# Altium integrated library Microchip Mixed Signal.IntLib: 1399 symbols (part 1 of 39)
Pins are listed as number, name and electrical type; pins without a type are passive.

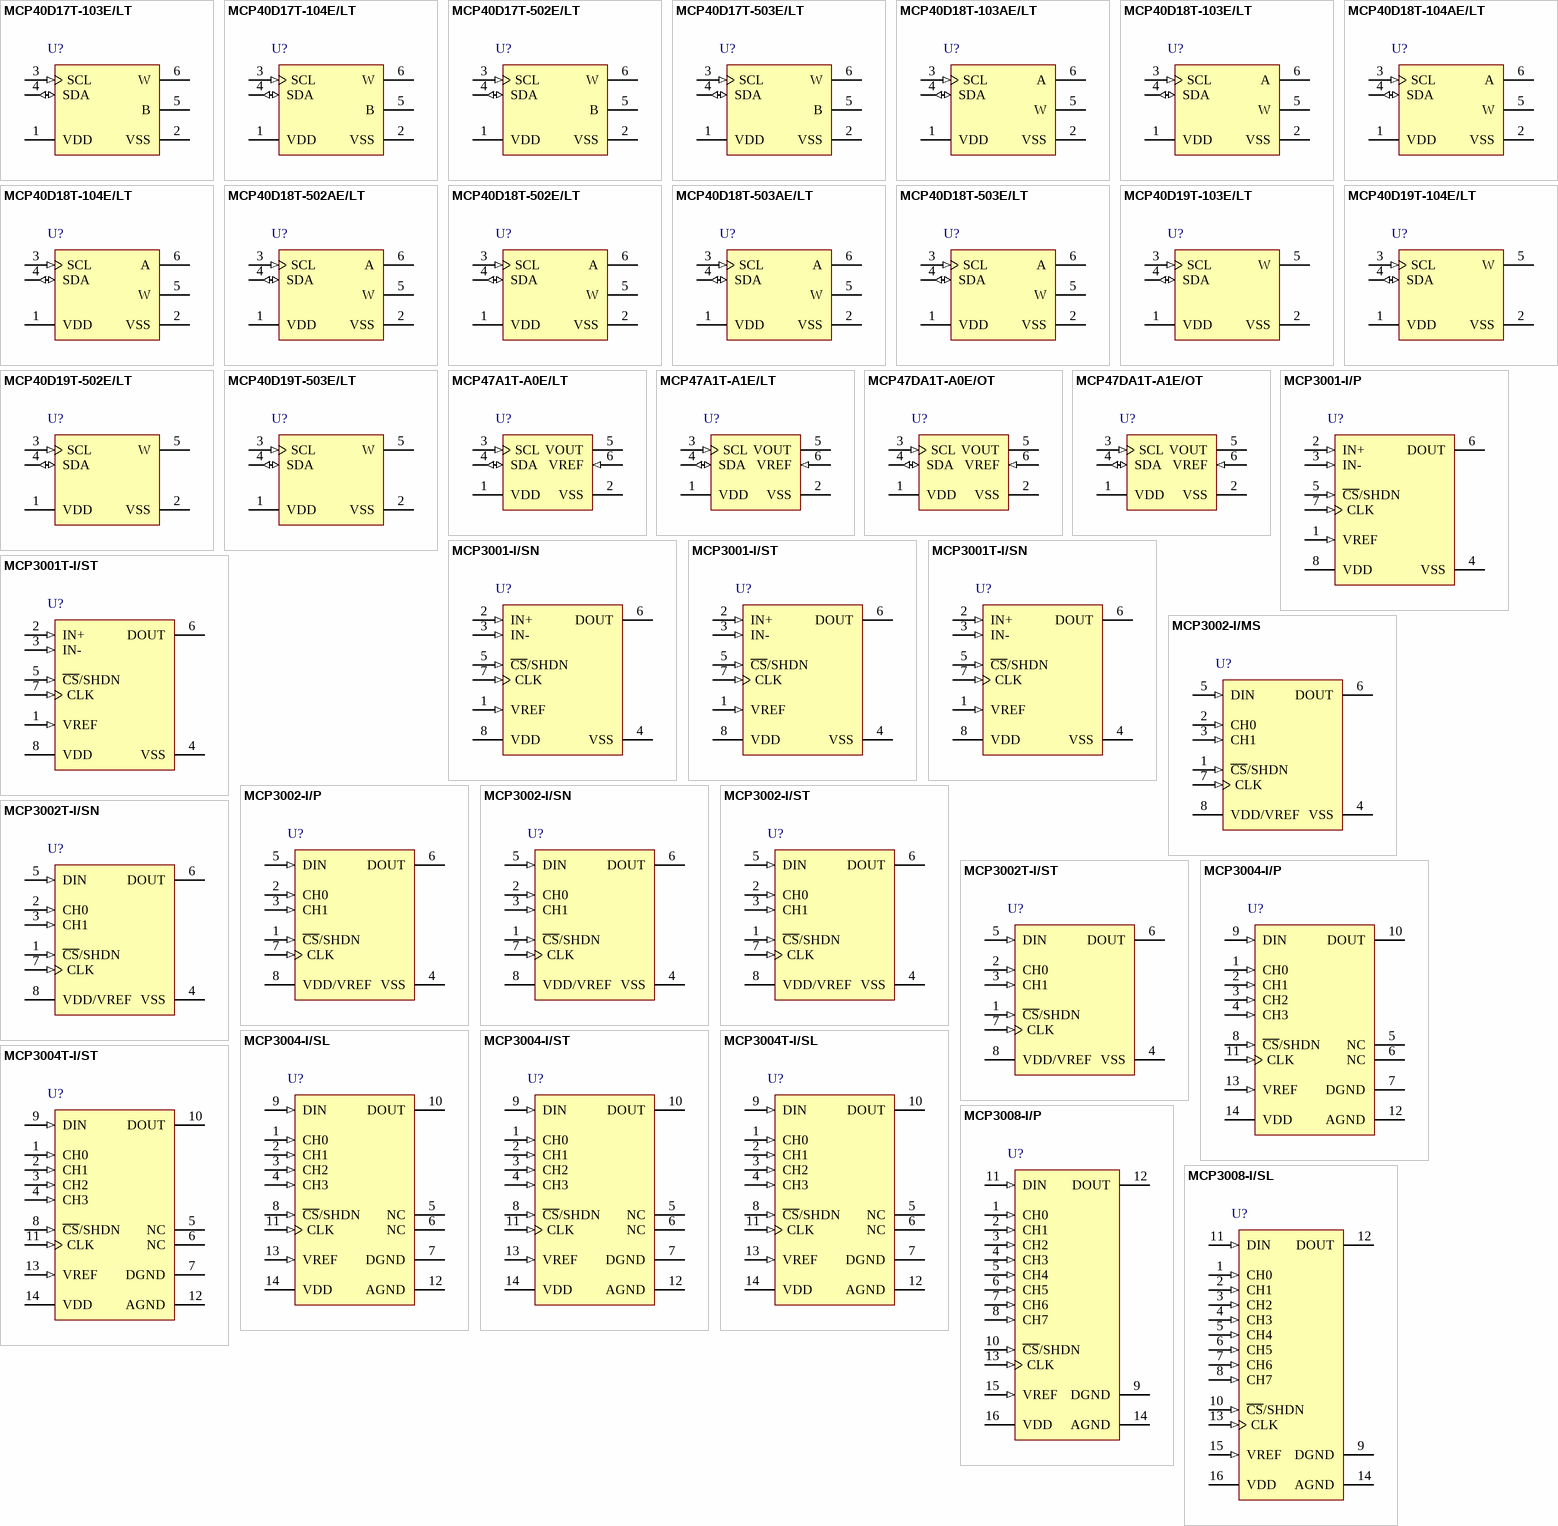
[diagram p0: symbols MCP40D17T-103E/LT to MCP3008-I/SL]

## MCP40D17T-103E/LT
designator U?
7-Bit Single I2C (with Command Code) Digital POT with Volatile Memory, 6-pin SC70, Extended Temperature, Tape and Reel; Manufacturer: Microchip; PartNumber: MCP40D17T-103E/LT; DatasheetVersion: revB, Aug-2009; PackageVersion: revBB, Aug-2009; PackageReference: SC70-LT6; PackageDescription: 6-Lead Plastic Small Outline Transistor (LT) [SC70]; Supplier 1: Digi-Key; Supplier Part Number 1: MCP40D17T-103E/LTTR-ND; Supplier 2: Digi-Key; Supplier Part Number 2: MCP40D17T-103E/LTCT-ND; Supplier 3: Digi-Key; Supplier Part Number 3: MCP40D17T-103E/LTDKR-ND; Supplier 4: Farnell; Supplier Part Number 4: 1800211; Supplier 5: Newark; Supplier Part Number 5: 25R7937; Supplier 6: Mouser; Supplier Part Number 6: 579-MCP40D17T103E/LT; Mounting Technology: Surface Mount; ComponentLink1Description: Manufacturer URL; ComponentLink1URL: http://www.microchip.com/; ComponentLink2Description: Datasheet; ComponentLink2URL: http://ww1.microchip.com/downloads/en/DeviceDoc/22152b.pdf; ComponentLink3Description: Package Specification; ComponentLink3URL: http://www.microchip.com/stellent/groups/techpub_sg/documents/packagingspec/en012702.pdf
footprint SC70-LT6_N (SOT363, 6-Leads, Body 2x1.3mm, Pitch 0.65mm, Lead Span 2.1mm, IPC Medium Density)
footprint SC70-LT6_L (SOT363, 6-Leads, Body 2x1.3mm, Pitch 0.65mm, Lead Span 2.1mm, IPC High Density)
footprint SC70-LT6_M (SOT363, 6-Leads, Body 2x1.3mm, Pitch 0.65mm, Lead Span 2.1mm, IPC Low Density)
pins: 1 VDD (power), 2 VSS (power), 3 SCL (in), 4 SDA (io), 5 B, 6 W

## MCP40D17T-104E/LT
designator U?
7-Bit Single I2C (with Command Code) Digital POT with Volatile Memory, 6-pin SC70, Extended Temperature, Tape and Reel; Manufacturer: Microchip; PartNumber: MCP40D17T-104E/LT; DatasheetVersion: revB, Aug-2009; PackageVersion: revBB, Aug-2009; PackageReference: SC70-LT6; PackageDescription: 6-Lead Plastic Small Outline Transistor (LT) [SC70]; Supplier 1: Digi-Key; Supplier Part Number 1: MCP40D17T-104E/LTTR-ND; Supplier 2: Digi-Key; Supplier Part Number 2: MCP40D17T-104E/LTCT-ND; Supplier 3: Digi-Key; Supplier Part Number 3: MCP40D17T-104E/LTDKR-ND; Supplier 4: Farnell; Supplier Part Number 4: 1834932; Supplier 5: Newark; Supplier Part Number 5: 84R6240; Supplier 6: Mouser; Supplier Part Number 6: 579-MCP40D17T104E/LT; Mounting Technology: Surface Mount; ComponentLink1Description: Manufacturer URL; ComponentLink1URL: http://www.microchip.com/; ComponentLink2Description: Datasheet; ComponentLink2URL: http://ww1.microchip.com/downloads/en/DeviceDoc/22152b.pdf; ComponentLink3Description: Package Specification; ComponentLink3URL: http://www.microchip.com/stellent/groups/techpub_sg/documents/packagingspec/en012702.pdf
footprint SC70-LT6_N (SOT363, 6-Leads, Body 2x1.3mm, Pitch 0.65mm, Lead Span 2.1mm, IPC Medium Density)
footprint SC70-LT6_L (SOT363, 6-Leads, Body 2x1.3mm, Pitch 0.65mm, Lead Span 2.1mm, IPC High Density)
footprint SC70-LT6_M (SOT363, 6-Leads, Body 2x1.3mm, Pitch 0.65mm, Lead Span 2.1mm, IPC Low Density)
pins: 1 VDD (power), 2 VSS (power), 3 SCL (in), 4 SDA (io), 5 B, 6 W

## MCP40D17T-502E/LT
designator U?
7-Bit Single I2C (with Command Code) Digital POT with Volatile Memory, 6-pin SC70, Extended Temperature, Tape and Reel; Manufacturer: Microchip; PartNumber: MCP40D17T-502E/LT; DatasheetVersion: revB, Aug-2009; PackageVersion: revBB, Aug-2009; PackageReference: SC70-LT6; PackageDescription: 6-Lead Plastic Small Outline Transistor (LT) [SC70]; Supplier 1: Digi-Key; Supplier Part Number 1: MCP40D17T-502E/LTTR-ND; Supplier 2: Digi-Key; Supplier Part Number 2: MCP40D17T-502E/LTCT-ND; Supplier 3: Digi-Key; Supplier Part Number 3: MCP40D17T-502E/LTDKR-ND; Supplier 4: Farnell; Supplier Part Number 4: 1800212; Supplier 5: Newark; Supplier Part Number 5: 65T6675; Supplier 6: Mouser; Supplier Part Number 6: 579-MCP40D17T502E/LT; Mounting Technology: Surface Mount; ComponentLink1Description: Manufacturer URL; ComponentLink1URL: http://www.microchip.com/; ComponentLink2Description: Datasheet; ComponentLink2URL: http://ww1.microchip.com/downloads/en/DeviceDoc/22152b.pdf; ComponentLink3Description: Package Specification; ComponentLink3URL: http://www.microchip.com/stellent/groups/techpub_sg/documents/packagingspec/en012702.pdf
footprint SC70-LT6_N (SOT363, 6-Leads, Body 2x1.3mm, Pitch 0.65mm, Lead Span 2.1mm, IPC Medium Density)
footprint SC70-LT6_L (SOT363, 6-Leads, Body 2x1.3mm, Pitch 0.65mm, Lead Span 2.1mm, IPC High Density)
footprint SC70-LT6_M (SOT363, 6-Leads, Body 2x1.3mm, Pitch 0.65mm, Lead Span 2.1mm, IPC Low Density)
pins: 1 VDD (power), 2 VSS (power), 3 SCL (in), 4 SDA (io), 5 B, 6 W

## MCP40D17T-503E/LT
designator U?
7-Bit Single I2C (with Command Code) Digital POT with Volatile Memory, 6-pin SC70, Extended Temperature, Tape and Reel; Manufacturer: Microchip; PartNumber: MCP40D17T-503E/LT; DatasheetVersion: revB, Aug-2009; PackageVersion: revBB, Aug-2009; PackageReference: SC70-LT6; PackageDescription: 6-Lead Plastic Small Outline Transistor (LT) [SC70]; Supplier 1: Digi-Key; Supplier Part Number 1: MCP40D17T-503E/LTTR-ND; Supplier 2: Digi-Key; Supplier Part Number 2: MCP40D17T-503E/LTCT-ND; Supplier 3: Digi-Key; Supplier Part Number 3: MCP40D17T-503E/LTDKR-ND; Supplier 4: Farnell; Supplier Part Number 4: 1834933; Supplier 5: Newark; Supplier Part Number 5: 84R6241; Supplier 6: Mouser; Supplier Part Number 6: 579-MCP40D17T503E/LT; Mounting Technology: Surface Mount; ComponentLink1Description: Manufacturer URL; ComponentLink1URL: http://www.microchip.com/; ComponentLink2Description: Datasheet; ComponentLink2URL: http://ww1.microchip.com/downloads/en/DeviceDoc/22152b.pdf; ComponentLink3Description: Package Specification; ComponentLink3URL: http://www.microchip.com/stellent/groups/techpub_sg/documents/packagingspec/en012702.pdf
footprint SC70-LT6_N (SOT363, 6-Leads, Body 2x1.3mm, Pitch 0.65mm, Lead Span 2.1mm, IPC Medium Density)
footprint SC70-LT6_L (SOT363, 6-Leads, Body 2x1.3mm, Pitch 0.65mm, Lead Span 2.1mm, IPC High Density)
footprint SC70-LT6_M (SOT363, 6-Leads, Body 2x1.3mm, Pitch 0.65mm, Lead Span 2.1mm, IPC Low Density)
pins: 1 VDD (power), 2 VSS (power), 3 SCL (in), 4 SDA (io), 5 B, 6 W

## MCP40D18T-103AE/LT
designator U?
7-Bit Single I2C (with Command Code) Digital POT with Volatile Memory, 6-pin SC70, Extended Temperature, Tape and Reel; Manufacturer: Microchip; PartNumber: MCP40D18T-103AE/LT; DatasheetVersion: revB, Aug-2009; PackageVersion: revBB, Aug-2009; PackageReference: SC70-LT6; PackageDescription: 6-Lead Plastic Small Outline Transistor (LT) [SC70]; Supplier 1: Digi-Key; Supplier Part Number 1: MCP40D18T-103AE/LT-ND; Supplier 2: Mouser; Supplier Part Number 2: 579-MCP40D18T103AELT; Mounting Technology: Surface Mount; ComponentLink1Description: Manufacturer URL; ComponentLink1URL: http://www.microchip.com/; ComponentLink2Description: Datasheet; ComponentLink2URL: http://ww1.microchip.com/downloads/en/DeviceDoc/22152b.pdf; ComponentLink3Description: Package Specification; ComponentLink3URL: http://www.microchip.com/stellent/groups/techpub_sg/documents/packagingspec/en012702.pdf
footprint SC70-LT6_N (SOT363, 6-Leads, Body 2x1.3mm, Pitch 0.65mm, Lead Span 2.1mm, IPC Medium Density)
footprint SC70-LT6_L (SOT363, 6-Leads, Body 2x1.3mm, Pitch 0.65mm, Lead Span 2.1mm, IPC High Density)
footprint SC70-LT6_M (SOT363, 6-Leads, Body 2x1.3mm, Pitch 0.65mm, Lead Span 2.1mm, IPC Low Density)
pins: 1 VDD (power), 2 VSS (power), 3 SCL (in), 4 SDA (io), 5 W, 6 A

## MCP40D18T-103E/LT
designator U?
7-Bit Single I2C (with Command Code) Digital POT with Volatile Memory, 6-pin SC70, Extended Temperature, Tape and Reel; Manufacturer: Microchip; PartNumber: MCP40D18T-103E/LT; DatasheetVersion: revB, Aug-2009; PackageVersion: revBB, Aug-2009; PackageReference: SC70-LT6; PackageDescription: 6-Lead Plastic Small Outline Transistor (LT) [SC70]; Supplier 1: Digi-Key; Supplier Part Number 1: MCP40D18T-103E/LTTR-ND; Supplier 2: Digi-Key; Supplier Part Number 2: MCP40D18T-103E/LTCT-ND; Supplier 3: Digi-Key; Supplier Part Number 3: MCP40D18T-103E/LTDKR-ND; Supplier 4: Farnell; Supplier Part Number 4: 1800213; Supplier 5: Newark; Supplier Part Number 5: 25R7941; Supplier 6: Mouser; Supplier Part Number 6: 579-MCP40D18T103E/LT; Mounting Technology: Surface Mount; ComponentLink1Description: Manufacturer URL; ComponentLink1URL: http://www.microchip.com/; ComponentLink2Description: Datasheet; ComponentLink2URL: http://ww1.microchip.com/downloads/en/DeviceDoc/22152b.pdf; ComponentLink3Description: Package Specification; ComponentLink3URL: http://www.microchip.com/stellent/groups/techpub_sg/documents/packagingspec/en012702.pdf
footprint SC70-LT6_N (SOT363, 6-Leads, Body 2x1.3mm, Pitch 0.65mm, Lead Span 2.1mm, IPC Medium Density)
footprint SC70-LT6_L (SOT363, 6-Leads, Body 2x1.3mm, Pitch 0.65mm, Lead Span 2.1mm, IPC High Density)
footprint SC70-LT6_M (SOT363, 6-Leads, Body 2x1.3mm, Pitch 0.65mm, Lead Span 2.1mm, IPC Low Density)
pins: 1 VDD (power), 2 VSS (power), 3 SCL (in), 4 SDA (io), 5 W, 6 A

## MCP40D18T-104AE/LT
designator U?
7-Bit Single I2C (with Command Code) Digital POT with Volatile Memory, 6-pin SC70, Extended Temperature, Tape and Reel; Manufacturer: Microchip; PartNumber: MCP40D18T-104AE/LT; DatasheetVersion: revB, Aug-2009; PackageVersion: revBB, Aug-2009; PackageReference: SC70-LT6; PackageDescription: 6-Lead Plastic Small Outline Transistor (LT) [SC70]; Supplier 1: Digi-Key; Supplier Part Number 1: MCP40D18T-104AE/LT-ND; Supplier 2: Mouser; Supplier Part Number 2: 579-MCP40D18T104AELT; Mounting Technology: Surface Mount; ComponentLink1Description: Manufacturer URL; ComponentLink1URL: http://www.microchip.com/; ComponentLink2Description: Datasheet; ComponentLink2URL: http://ww1.microchip.com/downloads/en/DeviceDoc/22152b.pdf; ComponentLink3Description: Package Specification; ComponentLink3URL: http://www.microchip.com/stellent/groups/techpub_sg/documents/packagingspec/en012702.pdf
footprint SC70-LT6_N (SOT363, 6-Leads, Body 2x1.3mm, Pitch 0.65mm, Lead Span 2.1mm, IPC Medium Density)
footprint SC70-LT6_L (SOT363, 6-Leads, Body 2x1.3mm, Pitch 0.65mm, Lead Span 2.1mm, IPC High Density)
footprint SC70-LT6_M (SOT363, 6-Leads, Body 2x1.3mm, Pitch 0.65mm, Lead Span 2.1mm, IPC Low Density)
pins: 1 VDD (power), 2 VSS (power), 3 SCL (in), 4 SDA (io), 5 W, 6 A

## MCP40D18T-104E/LT
designator U?
7-Bit Single I2C (with Command Code) Digital POT with Volatile Memory, 6-pin SC70, Extended Temperature, Tape and Reel; Manufacturer: Microchip; PartNumber: MCP40D18T-104E/LT; DatasheetVersion: revB, Aug-2009; PackageVersion: revBB, Aug-2009; PackageReference: SC70-LT6; PackageDescription: 6-Lead Plastic Small Outline Transistor (LT) [SC70]; Supplier 1: Digi-Key; Supplier Part Number 1: MCP40D18T-104E/LTTR-ND; Supplier 2: Digi-Key; Supplier Part Number 2: MCP40D18T-104E/LTCT-ND; Supplier 3: Digi-Key; Supplier Part Number 3: MCP40D18T-104E/LTDKR-ND; Supplier 4: Farnell; Supplier Part Number 4: 1834934; Supplier 5: Newark; Supplier Part Number 5: 84R6242; Supplier 6: Mouser; Supplier Part Number 6: 579-MCP40D18T104E/LT; Mounting Technology: Surface Mount; ComponentLink1Description: Manufacturer URL; ComponentLink1URL: http://www.microchip.com/; ComponentLink2Description: Datasheet; ComponentLink2URL: http://ww1.microchip.com/downloads/en/DeviceDoc/22152b.pdf; ComponentLink3Description: Package Specification; ComponentLink3URL: http://www.microchip.com/stellent/groups/techpub_sg/documents/packagingspec/en012702.pdf
footprint SC70-LT6_N (SOT363, 6-Leads, Body 2x1.3mm, Pitch 0.65mm, Lead Span 2.1mm, IPC Medium Density)
footprint SC70-LT6_L (SOT363, 6-Leads, Body 2x1.3mm, Pitch 0.65mm, Lead Span 2.1mm, IPC High Density)
footprint SC70-LT6_M (SOT363, 6-Leads, Body 2x1.3mm, Pitch 0.65mm, Lead Span 2.1mm, IPC Low Density)
pins: 1 VDD (power), 2 VSS (power), 3 SCL (in), 4 SDA (io), 5 W, 6 A

## MCP40D18T-502AE/LT
designator U?
7-Bit Single I2C (with Command Code) Digital POT with Volatile Memory, 6-pin SC70, Extended Temperature, Tape and Reel; Manufacturer: Microchip; PartNumber: MCP40D18T-502AE/LT; DatasheetVersion: revB, Aug-2009; PackageVersion: revBB, Aug-2009; PackageReference: SC70-LT6; PackageDescription: 6-Lead Plastic Small Outline Transistor (LT) [SC70]; Supplier 1: Digi-Key; Supplier Part Number 1: MCP40D18T-502AE/LT-ND; Supplier 2: Mouser; Supplier Part Number 2: 579-MCP40D18T502AELT; Mounting Technology: Surface Mount; ComponentLink1Description: Manufacturer URL; ComponentLink1URL: http://www.microchip.com/; ComponentLink2Description: Datasheet; ComponentLink2URL: http://ww1.microchip.com/downloads/en/DeviceDoc/22152b.pdf; ComponentLink3Description: Package Specification; ComponentLink3URL: http://www.microchip.com/stellent/groups/techpub_sg/documents/packagingspec/en012702.pdf
footprint SC70-LT6_N (SOT363, 6-Leads, Body 2x1.3mm, Pitch 0.65mm, Lead Span 2.1mm, IPC Medium Density)
footprint SC70-LT6_L (SOT363, 6-Leads, Body 2x1.3mm, Pitch 0.65mm, Lead Span 2.1mm, IPC High Density)
footprint SC70-LT6_M (SOT363, 6-Leads, Body 2x1.3mm, Pitch 0.65mm, Lead Span 2.1mm, IPC Low Density)
pins: 1 VDD (power), 2 VSS (power), 3 SCL (in), 4 SDA (io), 5 W, 6 A

## MCP40D18T-502E/LT
designator U?
7-Bit Single I2C (with Command Code) Digital POT with Volatile Memory, 6-pin SC70, Extended Temperature, Tape and Reel; Manufacturer: Microchip; PartNumber: MCP40D18T-502E/LT; DatasheetVersion: revB, Aug-2009; PackageVersion: revBB, Aug-2009; PackageReference: SC70-LT6; PackageDescription: 6-Lead Plastic Small Outline Transistor (LT) [SC70]; Supplier 1: Digi-Key; Supplier Part Number 1: MCP40D18T-502E/LTTR-ND; Supplier 2: Digi-Key; Supplier Part Number 2: MCP40D18T-502E/LTCT-ND; Supplier 3: Digi-Key; Supplier Part Number 3: MCP40D18T-502E/LTDKR-ND; Supplier 4: Farnell; Supplier Part Number 4: 1800214; Supplier 5: Newark; Supplier Part Number 5: 25R7943; Supplier 6: Mouser; Supplier Part Number 6: 579-MCP40D18T502E/LT; Mounting Technology: Surface Mount; ComponentLink1Description: Manufacturer URL; ComponentLink1URL: http://www.microchip.com/; ComponentLink2Description: Datasheet; ComponentLink2URL: http://ww1.microchip.com/downloads/en/DeviceDoc/22152b.pdf; ComponentLink3Description: Package Specification; ComponentLink3URL: http://www.microchip.com/stellent/groups/techpub_sg/documents/packagingspec/en012702.pdf
footprint SC70-LT6_N (SOT363, 6-Leads, Body 2x1.3mm, Pitch 0.65mm, Lead Span 2.1mm, IPC Medium Density)
footprint SC70-LT6_L (SOT363, 6-Leads, Body 2x1.3mm, Pitch 0.65mm, Lead Span 2.1mm, IPC High Density)
footprint SC70-LT6_M (SOT363, 6-Leads, Body 2x1.3mm, Pitch 0.65mm, Lead Span 2.1mm, IPC Low Density)
pins: 1 VDD (power), 2 VSS (power), 3 SCL (in), 4 SDA (io), 5 W, 6 A

## MCP40D18T-503AE/LT
designator U?
7-Bit Single I2C (with Command Code) Digital POT with Volatile Memory, 6-pin SC70, Extended Temperature, Tape and Reel; Manufacturer: Microchip; PartNumber: MCP40D18T-503AE/LT; DatasheetVersion: revB, Aug-2009; PackageVersion: revBB, Aug-2009; PackageReference: SC70-LT6; PackageDescription: 6-Lead Plastic Small Outline Transistor (LT) [SC70]; Supplier 1: Digi-Key; Supplier Part Number 1: MCP40D18T-503AE/LT-ND; Supplier 2: Mouser; Supplier Part Number 2: 579-MCP40D18T503AELT; Mounting Technology: Surface Mount; ComponentLink1Description: Manufacturer URL; ComponentLink1URL: http://www.microchip.com/; ComponentLink2Description: Datasheet; ComponentLink2URL: http://ww1.microchip.com/downloads/en/DeviceDoc/22152b.pdf; ComponentLink3Description: Package Specification; ComponentLink3URL: http://www.microchip.com/stellent/groups/techpub_sg/documents/packagingspec/en012702.pdf
footprint SC70-LT6_N (SOT363, 6-Leads, Body 2x1.3mm, Pitch 0.65mm, Lead Span 2.1mm, IPC Medium Density)
footprint SC70-LT6_L (SOT363, 6-Leads, Body 2x1.3mm, Pitch 0.65mm, Lead Span 2.1mm, IPC High Density)
footprint SC70-LT6_M (SOT363, 6-Leads, Body 2x1.3mm, Pitch 0.65mm, Lead Span 2.1mm, IPC Low Density)
pins: 1 VDD (power), 2 VSS (power), 3 SCL (in), 4 SDA (io), 5 W, 6 A

## MCP40D18T-503E/LT
designator U?
7-Bit Single I2C (with Command Code) Digital POT with Volatile Memory, 6-pin SC70, Extended Temperature, Tape and Reel; Manufacturer: Microchip; PartNumber: MCP40D18T-503E/LT; DatasheetVersion: revB, Aug-2009; PackageVersion: revBB, Aug-2009; PackageReference: SC70-LT6; PackageDescription: 6-Lead Plastic Small Outline Transistor (LT) [SC70]; Supplier 1: Digi-Key; Supplier Part Number 1: MCP40D18T-503E/LTTR-ND; Supplier 2: Digi-Key; Supplier Part Number 2: MCP40D18T-503E/LTCT-ND; Supplier 3: Digi-Key; Supplier Part Number 3: MCP40D18T-503E/LTDKR-ND; Supplier 4: Farnell; Supplier Part Number 4: 1834935; Supplier 5: Newark; Supplier Part Number 5: 84R6243; Supplier 6: Mouser; Supplier Part Number 6: 579-MCP40D18T503E/LT; Mounting Technology: Surface Mount; ComponentLink1Description: Manufacturer URL; ComponentLink1URL: http://www.microchip.com/; ComponentLink2Description: Datasheet; ComponentLink2URL: http://ww1.microchip.com/downloads/en/DeviceDoc/22152b.pdf; ComponentLink3Description: Package Specification; ComponentLink3URL: http://www.microchip.com/stellent/groups/techpub_sg/documents/packagingspec/en012702.pdf
footprint SC70-LT6_N (SOT363, 6-Leads, Body 2x1.3mm, Pitch 0.65mm, Lead Span 2.1mm, IPC Medium Density)
footprint SC70-LT6_L (SOT363, 6-Leads, Body 2x1.3mm, Pitch 0.65mm, Lead Span 2.1mm, IPC High Density)
footprint SC70-LT6_M (SOT363, 6-Leads, Body 2x1.3mm, Pitch 0.65mm, Lead Span 2.1mm, IPC Low Density)
pins: 1 VDD (power), 2 VSS (power), 3 SCL (in), 4 SDA (io), 5 W, 6 A

## MCP40D19T-103E/LT
designator U?
7-Bit Single I2C (with Command Code) Digital POT with Volatile Memory, 5-pin SC70, Extended Temperature, Tape and Reel; Manufacturer: Microchip; PartNumber: MCP40D19T-103E/LT; DatasheetVersion: revB, Aug-2009; PackageVersion: revBB, Aug-2009; PackageReference: SC70-LT5; PackageDescription: 5-Lead Plastic Small Outline Transistor (LT) [SC70]; Supplier 1: Digi-Key; Supplier Part Number 1: MCP40D19T-103E/LTTR-ND; Supplier 2: Digi-Key; Supplier Part Number 2: MCP40D19T-103E/LTCT-ND; Supplier 3: Digi-Key; Supplier Part Number 3: MCP40D19T-103E/LTDKR-ND; Supplier 4: Farnell; Supplier Part Number 4: 1800215; Supplier 5: Newark; Supplier Part Number 5: 25R7945; Supplier 6: Mouser; Supplier Part Number 6: 579-MCP40D19T103E/LT; Mounting Technology: Surface Mount; Code_IPC: SOT353-5; ComponentLink1Description: Manufacturer URL; ComponentLink1URL: http://www.microchip.com/; ComponentLink2Description: Datasheet; ComponentLink2URL: http://ww1.microchip.com/downloads/en/DeviceDoc/22152b.pdf; ComponentLink3Description: Package Specification; ComponentLink3URL: http://www.microchip.com/stellent/groups/techpub_sg/documents/packagingspec/en012702.pdf
footprint SC70-LT5_N (SOT353, 5-Leads, Body 2x1.3mm, Pitch 0.65mm, Lead Span 2.1mm, IPC Medium Density)
footprint SC70-LT5_L (SOT353, 5-Leads, Body 2x1.3mm, Pitch 0.65mm, Lead Span 2.1mm, IPC High Density)
footprint SC70-LT5_M (SOT353, 5-Leads, Body 2x1.3mm, Pitch 0.65mm, Lead Span 2.1mm, IPC Low Density)
pins: 1 VDD (power), 2 VSS (power), 3 SCL (in), 4 SDA (io), 5 W

## MCP40D19T-104E/LT
designator U?
7-Bit Single I2C (with Command Code) Digital POT with Volatile Memory, 5-pin SC70, Extended Temperature, Tape and Reel; Manufacturer: Microchip; PartNumber: MCP40D19T-104E/LT; DatasheetVersion: revB, Aug-2009; PackageVersion: revBB, Aug-2009; PackageReference: SC70-LT5; PackageDescription: 5-Lead Plastic Small Outline Transistor (LT) [SC70]; Supplier 1: Digi-Key; Supplier Part Number 1: MCP40D19T-104E/LTTR-ND; Supplier 2: Digi-Key; Supplier Part Number 2: MCP40D19T-104E/LTCT-ND; Supplier 3: Digi-Key; Supplier Part Number 3: MCP40D19T-104E/LTDKR-ND; Supplier 4: Farnell; Supplier Part Number 4: 1834936; Supplier 5: Newark; Supplier Part Number 5: 84R6244; Supplier 6: Mouser; Supplier Part Number 6: 579-MCP40D19T104E/LT; Mounting Technology: Surface Mount; Code_IPC: SOT353-5; ComponentLink1Description: Manufacturer URL; ComponentLink1URL: http://www.microchip.com/; ComponentLink2Description: Datasheet; ComponentLink2URL: http://ww1.microchip.com/downloads/en/DeviceDoc/22152b.pdf; ComponentLink3Description: Package Specification; ComponentLink3URL: http://www.microchip.com/stellent/groups/techpub_sg/documents/packagingspec/en012702.pdf
footprint SC70-LT5_N (SOT353, 5-Leads, Body 2x1.3mm, Pitch 0.65mm, Lead Span 2.1mm, IPC Medium Density)
footprint SC70-LT5_L (SOT353, 5-Leads, Body 2x1.3mm, Pitch 0.65mm, Lead Span 2.1mm, IPC High Density)
footprint SC70-LT5_M (SOT353, 5-Leads, Body 2x1.3mm, Pitch 0.65mm, Lead Span 2.1mm, IPC Low Density)
pins: 1 VDD (power), 2 VSS (power), 3 SCL (in), 4 SDA (io), 5 W

## MCP40D19T-502E/LT
designator U?
7-Bit Single I2C (with Command Code) Digital POT with Volatile Memory, 5-pin SC70, Extended Temperature, Tape and Reel; Manufacturer: Microchip; PartNumber: MCP40D19T-502E/LT; DatasheetVersion: revB, Aug-2009; PackageVersion: revBB, Aug-2009; PackageReference: SC70-LT5; PackageDescription: 5-Lead Plastic Small Outline Transistor (LT) [SC70]; Supplier 1: Digi-Key; Supplier Part Number 1: MCP40D19T-502E/LTTR-ND; Supplier 2: Digi-Key; Supplier Part Number 2: MCP40D19T-502E/LTCT-ND; Supplier 3: Digi-Key; Supplier Part Number 3: MCP40D19T-502E/LTDKR-ND; Supplier 4: Farnell; Supplier Part Number 4: 1800216; Supplier 5: Newark; Supplier Part Number 5: 25R7947; Supplier 6: Mouser; Supplier Part Number 6: 579-MCP40D19T502E/LT; Mounting Technology: Surface Mount; Code_IPC: SOT353-5; ComponentLink1Description: Manufacturer URL; ComponentLink1URL: http://www.microchip.com/; ComponentLink2Description: Datasheet; ComponentLink2URL: http://ww1.microchip.com/downloads/en/DeviceDoc/22152b.pdf; ComponentLink3Description: Package Specification; ComponentLink3URL: http://www.microchip.com/stellent/groups/techpub_sg/documents/packagingspec/en012702.pdf
footprint SC70-LT5_N (SOT353, 5-Leads, Body 2x1.3mm, Pitch 0.65mm, Lead Span 2.1mm, IPC Medium Density)
footprint SC70-LT5_L (SOT353, 5-Leads, Body 2x1.3mm, Pitch 0.65mm, Lead Span 2.1mm, IPC High Density)
footprint SC70-LT5_M (SOT353, 5-Leads, Body 2x1.3mm, Pitch 0.65mm, Lead Span 2.1mm, IPC Low Density)
pins: 1 VDD (power), 2 VSS (power), 3 SCL (in), 4 SDA (io), 5 W

## MCP40D19T-503E/LT
designator U?
7-Bit Single I2C (with Command Code) Digital POT with Volatile Memory, 5-pin SC70, Extended Temperature, Tape and Reel; Manufacturer: Microchip; PartNumber: MCP40D19T-503E/LT; DatasheetVersion: revB, Aug-2009; PackageVersion: revBB, Aug-2009; PackageReference: SC70-LT5; PackageDescription: 5-Lead Plastic Small Outline Transistor (LT) [SC70]; Supplier 1: Digi-Key; Supplier Part Number 1: MCP40D19T-503E/LTTR-ND; Supplier 2: Digi-Key; Supplier Part Number 2: MCP40D19T-503E/LTCT-ND; Supplier 3: Digi-Key; Supplier Part Number 3: MCP40D19T-503E/LTDKR-ND; Supplier 4: Farnell; Supplier Part Number 4: 1834937; Supplier 5: Newark; Supplier Part Number 5: 84R6245; Supplier 6: Mouser; Supplier Part Number 6: 579-MCP40D19T503E/LT; Mounting Technology: Surface Mount; Code_IPC: SOT353-5; ComponentLink1Description: Manufacturer URL; ComponentLink1URL: http://www.microchip.com/; ComponentLink2Description: Datasheet; ComponentLink2URL: http://ww1.microchip.com/downloads/en/DeviceDoc/22152b.pdf; ComponentLink3Description: Package Specification; ComponentLink3URL: http://www.microchip.com/stellent/groups/techpub_sg/documents/packagingspec/en012702.pdf
footprint SC70-LT5_N (SOT353, 5-Leads, Body 2x1.3mm, Pitch 0.65mm, Lead Span 2.1mm, IPC Medium Density)
footprint SC70-LT5_L (SOT353, 5-Leads, Body 2x1.3mm, Pitch 0.65mm, Lead Span 2.1mm, IPC High Density)
footprint SC70-LT5_M (SOT353, 5-Leads, Body 2x1.3mm, Pitch 0.65mm, Lead Span 2.1mm, IPC Low Density)
pins: 1 VDD (power), 2 VSS (power), 3 SCL (in), 4 SDA (io), 5 W

## MCP47A1T-A0E/LT
designator U?
6-Bit Volatile DAC with Command Code, 130 µA Typical Operating Current, -40 to 125 degC, 6-pin SC70 (LT6), Tape and Reel; Manufacturer: Microchip; PartNumber: MCP47A1T-A0E/LT; DatasheetVersion: Rev. A; PackageVersion: C04-151A; PackageReference: SC70-LT6; PackageDescription: 6-Lead Plastic Small Outline Transistor, 2 x 1.25 mm Body, 0.65 mm Pitch; Supplier 1: Digi-Key; Supplier Part Number 1: MCP47A1T-A0E/LT-ND; Supplier 2: Newark; Supplier Part Number 2: 06W2873; Supplier 3: Mouser; Supplier Part Number 3: 579-MCP47A1T-A0E/LT; Mounting Technology: Surface Mount; ComponentLink1Description: Manufacturer URL; ComponentLink1URL: http://www.microchip.com; ComponentLink2Description: Datasheet; ComponentLink2URL: http://ww1.microchip.com/downloads/en/DeviceDoc/25154A.pdf; ComponentLink3Description: Package Specification; ComponentLink3URL: http://www.microchip.com/stellent/groups/techpub_sg/documents/packagingspec/en012702.pdf; ComponentLink4Description: Product URL; ComponentLink4URL: http://www.microchip.com/MCP47A1
footprint MCHP-SC70-LT6_N (SOT23, 6-Leads, Body 2x1.25mm, Pitch 0.65mm, IPC Medium Density)
footprint MCHP-SC70-LT6_L (SOT23, 6-Leads, Body 2x1.25mm, Pitch 0.65mm, IPC High Density)
footprint MCHP-SC70-LT6_M (SOT23, 6-Leads, Body 2x1.25mm, Pitch 0.65mm, IPC Low Density)
pins: 1 VDD (power) "Positive Power Supply Input", 2 VSS (power) "Ground", 3 SCL (in) "I2C Serial Clock pin", 4 SDA (io) "I2C Serial Data pin", 5 VOUT (power) "Output voltage", 6 VREF (in) "Reference Voltage for VOUT output"

## MCP47A1T-A1E/LT
designator U?
6-Bit Volatile DAC with Command Code, 130 µA Typical Operating Current, -40 to 125 degC, 6-pin SC70 (LT6), Tape and Reel; Manufacturer: Microchip; PartNumber: MCP47A1T-A1E/LT; DatasheetVersion: Rev. A; PackageVersion: C04-151A; PackageReference: SC70-LT6; PackageDescription: 6-Lead Plastic Small Outline Transistor, 2 x 1.25 mm Body, 0.65 mm Pitch; Supplier 1: Digi-Key; Supplier Part Number 1: MCP47A1T-A1E/LT-ND; Supplier 2: Newark; Supplier Part Number 2: 06W2874; Supplier 3: Mouser; Supplier Part Number 3: 579-MCP47A1T-A1E/LT; Mounting Technology: Surface Mount; ComponentLink1Description: Manufacturer URL; ComponentLink1URL: http://www.microchip.com; ComponentLink2Description: Datasheet; ComponentLink2URL: http://ww1.microchip.com/downloads/en/DeviceDoc/25154A.pdf; ComponentLink3Description: Package Specification; ComponentLink3URL: http://www.microchip.com/stellent/groups/techpub_sg/documents/packagingspec/en012702.pdf; ComponentLink4Description: Product URL; ComponentLink4URL: http://www.microchip.com/MCP47A1
footprint MCHP-SC70-LT6_N (SOT23, 6-Leads, Body 2x1.25mm, Pitch 0.65mm, IPC Medium Density)
footprint MCHP-SC70-LT6_L (SOT23, 6-Leads, Body 2x1.25mm, Pitch 0.65mm, IPC High Density)
footprint MCHP-SC70-LT6_M (SOT23, 6-Leads, Body 2x1.25mm, Pitch 0.65mm, IPC Low Density)
pins: 1 VDD (power) "Positive Power Supply Input", 2 VSS (power) "Ground", 3 SCL (in) "I2C Serial Clock pin", 4 SDA (io) "I2C Serial Data pin", 5 VOUT (power) "Output voltage", 6 VREF (in) "Reference Voltage for VOUT output"

## MCP47DA1T-A0E/OT
designator U?
6-Bit Windowed Volatile DAC with Command Code, 130 µA Typical Operating Current, -40 to 125 degC, 6-pin SOT-23 (OT6), Tape and Reel; Manufacturer: Microchip; PartNumber: MCP47DA1T-A0E/OT; DatasheetVersion: Rev. C; PackageVersion: C04-028B; PackageReference: SOT-23-OT6; PackageDescription: 6-Lead Plastic Small Outline Transistor, 2.9 x 1.55 mm Body, 0.95 mm Pitch; Supplier 1: Digi-Key; Supplier Part Number 1: MCP47DA1T-A0E/OTTR-ND; Supplier 2: Digi-Key; Supplier Part Number 2: MCP47DA1T-A0E/OTCT-ND; Supplier 3: Digi-Key; Supplier Part Number 3: MCP47DA1T-A0E/OTDKR-ND; Supplier 4: Newark; Supplier Part Number 4: 94T7489; Supplier 5: Mouser; Supplier Part Number 5: 579-MCP47DA1T-A0E/OT; Mounting Technology: Surface Mount; ComponentLink1Description: Manufacturer URL; ComponentLink1URL: http://www.microchip.com; ComponentLink2Description: Datasheet; ComponentLink2URL: http://ww1.microchip.com/downloads/en/DeviceDoc/25118C.pdf; ComponentLink3Description: Package Specification; ComponentLink3URL: http://www.microchip.com/stellent/groups/techpub_sg/documents/packagingspec/en012702.pdf; ComponentLink4Description: Product URL; ComponentLink4URL: http://www.microchip.com/MCP47DA1
footprint MCHP-SOT-23-OT6_N (SOT23, 6-Leads, Body 2.9x1.55mm, Pitch 0.95mm, IPC Medium Density)
footprint MCHP-SOT-23-OT6_L (SOT23, 6-Leads, Body 2.9x1.55mm, Pitch 0.95mm, IPC High Density)
footprint MCHP-SOT-23-OT6_M (SOT23, 6-Leads, Body 2.9x1.55mm, Pitch 0.95mm, IPC Low Density)
pins: 1 VDD (power) "Positive Power Supply Input", 2 VSS (power) "Ground", 3 SCL (in) "I2C Serial Clock pin", 4 SDA (io) "I2C Serial Data pin", 5 VOUT (power) "Output voltage", 6 VREF (in) "Reference Voltage for VOUT output"

## MCP47DA1T-A1E/OT
designator U?
6-Bit Windowed Volatile DAC with Command Code, 130 µA Typical Operating Current, -40 to 125 degC, 6-pin SOT-23 (OT6), Tape and Reel; Manufacturer: Microchip; PartNumber: MCP47DA1T-A1E/OT; DatasheetVersion: Rev. C; PackageVersion: C04-028B; PackageReference: SOT-23-OT6; PackageDescription: 6-Lead Plastic Small Outline Transistor, 2.9 x 1.55 mm Body, 0.95 mm Pitch; Supplier 1: Digi-Key; Supplier Part Number 1: MCP47DA1T-A1E/OTTR-ND; Supplier 2: Digi-Key; Supplier Part Number 2: MCP47DA1T-A1E/OTCT-ND; Supplier 3: Digi-Key; Supplier Part Number 3: MCP47DA1T-A1E/OTDKR-ND; Supplier 4: Newark; Supplier Part Number 4: 94T7490; Supplier 5: Mouser; Supplier Part Number 5: 579-MCP47DA1T-A1E/OT; Mounting Technology: Surface Mount; ComponentLink1Description: Manufacturer URL; ComponentLink1URL: http://www.microchip.com; ComponentLink2Description: Datasheet; ComponentLink2URL: http://ww1.microchip.com/downloads/en/DeviceDoc/25118C.pdf; ComponentLink3Description: Package Specification; ComponentLink3URL: http://www.microchip.com/stellent/groups/techpub_sg/documents/packagingspec/en012702.pdf; ComponentLink4Description: Product URL; ComponentLink4URL: http://www.microchip.com/MCP47DA1
footprint MCHP-SOT-23-OT6_N (SOT23, 6-Leads, Body 2.9x1.55mm, Pitch 0.95mm, IPC Medium Density)
footprint MCHP-SOT-23-OT6_L (SOT23, 6-Leads, Body 2.9x1.55mm, Pitch 0.95mm, IPC High Density)
footprint MCHP-SOT-23-OT6_M (SOT23, 6-Leads, Body 2.9x1.55mm, Pitch 0.95mm, IPC Low Density)
pins: 1 VDD (power) "Positive Power Supply Input", 2 VSS (power) "Ground", 3 SCL (in) "I2C Serial Clock pin", 4 SDA (io) "I2C Serial Data pin", 5 VOUT (power) "Output voltage", 6 VREF (in) "Reference Voltage for VOUT output"

## MCP3001-I/P
designator U?
2.7V 10-Bit A/D Converter with SPI Serial Interface, 8-Pin PDIP, Industrial Temperature; Manufacturer: Microchip; PartNumber: MCP3001-I/P; DatasheetVersion: revC, Jan-2007; PackageVersion: revBB, Aug-2009; PackageReference: PDIP300-P8; PackageDescription: 8-Lead Plastic Dual In-Line (P) - 300 mil Body [PDIP]; Supplier 1: Digi-Key; Supplier Part Number 1: MCP3001-I/P-ND; Supplier 2: Farnell; Supplier Part Number 2: 1852014; Supplier 3: Farnell; Supplier Part Number 3: 2137053; Supplier 4: Newark; Supplier Part Number 4: 96K3720; Supplier 5: Mouser; Supplier Part Number 5: 579-MCP3001-I/P; Mounting Technology: Through Hole; Code_JEDEC: MS-001; ComponentLink1Description: Manufacturer URL; ComponentLink1URL: http://www.microchip.com/; ComponentLink2Description: Datasheet; ComponentLink2URL: http://ww1.microchip.com/downloads/en/DeviceDoc/21293C.pdf; ComponentLink3Description: Package Specification; ComponentLink3URL: http://www.microchip.com/stellent/groups/techpub_sg/documents/packagingspec/en012702.pdf
footprint PDIP300-P8 (DIP, 8-Leads, Row Spacing 7.62mm, Pitch 2.54mm, Body 9.5x6.6mm)
pins: 1 VREF (in), 2 IN+ (in), 3 IN- (in), 4 VSS (power), 5 ~{CS}/SHDN (in), 6 DOUT (hiz), 7 CLK (in), 8 VDD (power)

## MCP3001-I/SN
designator U?
2.7V 10-Bit A/D Converter with SPI Serial Interface, 8-Pin SOIC 150mil, Industrial Temperature; Manufacturer: Microchip; PartNumber: MCP3001-I/SN; DatasheetVersion: revC, Jan-2007; PackageVersion: revBB, Aug-2009; PackageReference: SOIC-SN8; PackageDescription: 8-Lead Plastic Small Outline (SN) - Narrow, 3.90mm Body [SOIC]; Supplier 1: Digi-Key; Supplier Part Number 1: MCP3001-I/SN-ND; Supplier 2: Farnell; Supplier Part Number 2: 1834906; Supplier 3: Newark; Supplier Part Number 3: 19C7185; Supplier 4: Mouser; Supplier Part Number 4: 579-MCP3001-I/SN; Mounting Technology: Surface Mount; Code_JEDEC: MS-012; Code_IPC: SOIC127P600-8; ComponentLink1Description: Manufacturer URL; ComponentLink1URL: http://www.microchip.com/; ComponentLink2Description: Datasheet; ComponentLink2URL: http://ww1.microchip.com/downloads/en/DeviceDoc/21293C.pdf; ComponentLink3Description: Package Specification; ComponentLink3URL: http://www.microchip.com/stellent/groups/techpub_sg/documents/packagingspec/en012702.pdf
footprint SOIC-SN8_N (SOIC, 8-Leads, Body 4.9x3.8mm, Pitch 1.27mm, IPC Medium Density)
footprint SOIC-SN8_L (SOIC, 8-Leads, Body 4.9x3.8mm, Pitch 1.27mm, IPC High Density)
footprint SOIC-SN8_M (SOIC, 8-Leads, Body 4.9x3.8mm, Pitch 1.27mm, IPC Low Density)
pins: 1 VREF (in), 2 IN+ (in), 3 IN- (in), 4 VSS (power), 5 ~{CS}/SHDN (in), 6 DOUT (hiz), 7 CLK (in), 8 VDD (power)

## MCP3001-I/ST
designator U?
2.7V 10-Bit A/D Converter with SPI Serial Interface, 8-Pin TSSOP, Industrial Temperature; Manufacturer: Microchip; PartNumber: MCP3001-I/ST; DatasheetVersion: revC, Jan-2007; PackageVersion: revBB, Aug-2009; PackageReference: TSSOP-ST8; PackageDescription: 8-Lead Plastic Thin Shrink Small Outline (ST) - 4.4mm Body [TSSOP]; Supplier 1: Digi-Key; Supplier Part Number 1: MCP3001-I/ST-ND; Supplier 2: Newark; Supplier Part Number 2: 88K1135; Supplier 3: Mouser; Supplier Part Number 3: 579-MCP3001-I/ST; Mounting Technology: Surface Mount; Code_JEDEC: MO-153; ComponentLink1Description: Manufacturer URL; ComponentLink1URL: http://www.microchip.com/; ComponentLink2Description: Datasheet; ComponentLink2URL: http://ww1.microchip.com/downloads/en/DeviceDoc/21293C.pdf; ComponentLink3Description: Package Specification; ComponentLink3URL: http://www.microchip.com/stellent/groups/techpub_sg/documents/packagingspec/en012702.pdf
footprint TSSOP-ST8_N (TSOP, 8-Leads, Body 3x4.4mm, Pitch 0.65mm, IPC Medium Density)
footprint TSSOP-ST8_L (TSOP, 8-Leads, Body 3x4.4mm, Pitch 0.65mm, IPC High Density)
footprint TSSOP-ST8_M (TSOP, 8-Leads, Body 3x4.4mm, Pitch 0.65mm, IPC Low Density)
pins: 1 VREF (in), 2 IN+ (in), 3 IN- (in), 4 VSS (power), 5 ~{CS}/SHDN (in), 6 DOUT (hiz), 7 CLK (in), 8 VDD (power)

## MCP3001T-I/SN
designator U?
2.7V 10-Bit A/D Converter with SPI Serial Interface, 8-Pin SOIC 150mil, Industrial Temperature, Tape and Reel; Manufacturer: Microchip; PartNumber: MCP3001T-I/SN; DatasheetVersion: revC, Jan-2007; PackageVersion: revBB, Aug-2009; PackageReference: SOIC-SN8; PackageDescription: 8-Lead Plastic Small Outline (SN) - Narrow, 3.90mm Body [SOIC]; Supplier 1: Digi-Key; Supplier Part Number 1: MCP3001T-I/SNTR-ND; Supplier 2: Digi-Key; Supplier Part Number 2: MCP3001T-I/SNCT-ND; Supplier 3: Digi-Key; Supplier Part Number 3: MCP3001T-I/SNDKR-ND; Supplier 4: Mouser; Supplier Part Number 4: 579-MCP3001T-I/SN; Mounting Technology: Surface Mount; Code_JEDEC: MS-012; Code_IPC: SOIC127P600-8; ComponentLink1Description: Manufacturer URL; ComponentLink1URL: http://www.microchip.com/; ComponentLink2Description: Datasheet; ComponentLink2URL: http://ww1.microchip.com/downloads/en/DeviceDoc/21293C.pdf; ComponentLink3Description: Package Specification; ComponentLink3URL: http://www.microchip.com/stellent/groups/techpub_sg/documents/packagingspec/en012702.pdf
footprint SOIC-SN8_N (SOIC, 8-Leads, Body 4.9x3.8mm, Pitch 1.27mm, IPC Medium Density)
footprint SOIC-SN8_L (SOIC, 8-Leads, Body 4.9x3.8mm, Pitch 1.27mm, IPC High Density)
footprint SOIC-SN8_M (SOIC, 8-Leads, Body 4.9x3.8mm, Pitch 1.27mm, IPC Low Density)
pins: 1 VREF (in), 2 IN+ (in), 3 IN- (in), 4 VSS (power), 5 ~{CS}/SHDN (in), 6 DOUT (hiz), 7 CLK (in), 8 VDD (power)

## MCP3001T-I/ST
designator U?
2.7V 10-Bit A/D Converter with SPI Serial Interface, 8-Pin TSSOP, Industrial Temperature, Tape and Reel; Manufacturer: Microchip; PartNumber: MCP3001T-I/ST; DatasheetVersion: revC, Jan-2007; PackageVersion: revBB, Aug-2009; PackageReference: TSSOP-ST8; PackageDescription: 8-Lead Plastic Thin Shrink Small Outline (ST) - 4.4mm Body [TSSOP]; Supplier 1: Digi-Key; Supplier Part Number 1: MCP3001T-I/ST-ND; Supplier 2: Mouser; Supplier Part Number 2: 579-MCP3001T-I/ST; Mounting Technology: Surface Mount; Code_JEDEC: MO-153; ComponentLink1Description: Manufacturer URL; ComponentLink1URL: http://www.microchip.com/; ComponentLink2Description: Datasheet; ComponentLink2URL: http://ww1.microchip.com/downloads/en/DeviceDoc/21293C.pdf; ComponentLink3Description: Package Specification; ComponentLink3URL: http://www.microchip.com/stellent/groups/techpub_sg/documents/packagingspec/en012702.pdf
footprint TSSOP-ST8_N (TSOP, 8-Leads, Body 3x4.4mm, Pitch 0.65mm, IPC Medium Density)
footprint TSSOP-ST8_L (TSOP, 8-Leads, Body 3x4.4mm, Pitch 0.65mm, IPC High Density)
footprint TSSOP-ST8_M (TSOP, 8-Leads, Body 3x4.4mm, Pitch 0.65mm, IPC Low Density)
pins: 1 VREF (in), 2 IN+ (in), 3 IN- (in), 4 VSS (power), 5 ~{CS}/SHDN (in), 6 DOUT (hiz), 7 CLK (in), 8 VDD (power)

## MCP3002-I/MS
designator U?
2.7V Dual Channel 10-Bit A/D Converter with SPI Serial Interface, 8-Pin MSOP, Industrial Temperature; Manufacturer: Microchip; PartNumber: MCP3002-I/MS; DatasheetVersion: revE, Nov-2011; PackageVersion: revBB, Aug-2009; PackageReference: MSOP-MS8; PackageDescription: 8-Lead Plastic Micro Small Outline Package (MS) [MSOP]; Supplier 1: Digi-Key; Supplier Part Number 1: MCP3002-I/MS-ND; Supplier 2: Mouser; Supplier Part Number 2: 579-MCP3002-I/MS; Mounting Technology: Surface Mount; ComponentLink1Description: Manufacturer URL; ComponentLink1URL: http://www.microchip.com/; ComponentLink2Description: Datasheet; ComponentLink2URL: http://ww1.microchip.com/downloads/en/DeviceDoc/21294E.pdf; ComponentLink3Description: Package Specification; ComponentLink3URL: http://www.microchip.com/stellent/groups/techpub_sg/documents/packagingspec/en012702.pdf
footprint MSOP-MS8_N (TSOP, 8-Leads, Body 3x3mm, Pitch 0.65mm, IPC Medium Density)
footprint MSOP-MS8_L (TSOP, 8-Leads, Body 3x3mm, Pitch 0.65mm, IPC High Density)
footprint MSOP-MS8_M (TSOP, 8-Leads, Body 3x3mm, Pitch 0.65mm, IPC Low Density)
pins: 1 ~{CS}/SHDN (in), 2 CH0 (in), 3 CH1 (in), 4 VSS (power), 5 DIN (in), 6 DOUT (hiz), 7 CLK (in), 8 VDD/VREF (power)

## MCP3002-I/P
designator U?
2.7V Dual Channel 10-Bit A/D Converter with SPI Serial Interface, 8-Pin PDIP, Industrial Temperature; Manufacturer: Microchip; PartNumber: MCP3002-I/P; DatasheetVersion: revE, Nov-2011; PackageVersion: revBB, Aug-2009; PackageReference: PDIP300-P8; PackageDescription: 8-Lead Plastic Dual In-Line (P) - 300 mil Body [PDIP]; Supplier 1: Digi-Key; Supplier Part Number 1: MCP3002-I/P-ND; Supplier 2: Farnell; Supplier Part Number 2: 1852015; Supplier 3: Newark; Supplier Part Number 3: 61K2948; Supplier 4: Mouser; Supplier Part Number 4: 579-MCP3002-I/P; Mounting Technology: Through Hole; Code_JEDEC: MS-001; ComponentLink1Description: Manufacturer URL; ComponentLink1URL: http://www.microchip.com/; ComponentLink2Description: Datasheet; ComponentLink2URL: http://ww1.microchip.com/downloads/en/DeviceDoc/21294E.pdf; ComponentLink3Description: Package Specification; ComponentLink3URL: http://www.microchip.com/stellent/groups/techpub_sg/documents/packagingspec/en012702.pdf
footprint PDIP300-P8 (DIP, 8-Leads, Row Spacing 7.62mm, Pitch 2.54mm, Body 9.5x6.6mm)
pins: 1 ~{CS}/SHDN (in), 2 CH0 (in), 3 CH1 (in), 4 VSS (power), 5 DIN (in), 6 DOUT (hiz), 7 CLK (in), 8 VDD/VREF (power)

## MCP3002-I/SN
designator U?
2.7V Dual Channel 10-Bit A/D Converter with SPI Serial Interface, 8-Pin SOIC 150mil, Industrial Temperature; Manufacturer: Microchip; PartNumber: MCP3002-I/SN; DatasheetVersion: revE, Nov-2011; PackageVersion: revBB, Aug-2009; PackageReference: SOIC-SN8; PackageDescription: 8-Lead Plastic Small Outline (SN) - Narrow, 3.90mm Body [SOIC]; Supplier 1: Digi-Key; Supplier Part Number 1: MCP3002-I/SN-ND; Supplier 2: Farnell; Supplier Part Number 2: 1834969; Supplier 3: Newark; Supplier Part Number 3: 59K0225; Supplier 4: Mouser; Supplier Part Number 4: 579-MCP3002-I/SN; Mounting Technology: Surface Mount; Code_JEDEC: MS-012; Code_IPC: SOIC127P600-8; ComponentLink1Description: Manufacturer URL; ComponentLink1URL: http://www.microchip.com/; ComponentLink2Description: Datasheet; ComponentLink2URL: http://ww1.microchip.com/downloads/en/DeviceDoc/21294E.pdf; ComponentLink3Description: Package Specification; ComponentLink3URL: http://www.microchip.com/stellent/groups/techpub_sg/documents/packagingspec/en012702.pdf
footprint SOIC-SN8_N (SOIC, 8-Leads, Body 4.9x3.8mm, Pitch 1.27mm, IPC Medium Density)
footprint SOIC-SN8_L (SOIC, 8-Leads, Body 4.9x3.8mm, Pitch 1.27mm, IPC High Density)
footprint SOIC-SN8_M (SOIC, 8-Leads, Body 4.9x3.8mm, Pitch 1.27mm, IPC Low Density)
pins: 1 ~{CS}/SHDN (in), 2 CH0 (in), 3 CH1 (in), 4 VSS (power), 5 DIN (in), 6 DOUT (hiz), 7 CLK (in), 8 VDD/VREF (power)

## MCP3002-I/ST
designator U?
2.7V Dual Channel 10-Bit A/D Converter with SPI Serial Interface, 8-Pin TSSOP, Industrial Temperature; Manufacturer: Microchip; PartNumber: MCP3002-I/ST; DatasheetVersion: revE, Nov-2011; PackageVersion: revBB, Aug-2009; PackageReference: TSSOP-ST8; PackageDescription: 8-Lead Plastic Thin Shrink Small Outline (ST) - 4.4mm Body [TSSOP]; Supplier 1: Digi-Key; Supplier Part Number 1: MCP3002-I/ST-ND; Supplier 2: Mouser; Supplier Part Number 2: 579-MCP3002-I/ST; Mounting Technology: Surface Mount; Code_JEDEC: MO-153; ComponentLink1Description: Manufacturer URL; ComponentLink1URL: http://www.microchip.com/; ComponentLink2Description: Datasheet; ComponentLink2URL: http://ww1.microchip.com/downloads/en/DeviceDoc/21294E.pdf; ComponentLink3Description: Package Specification; ComponentLink3URL: http://www.microchip.com/stellent/groups/techpub_sg/documents/packagingspec/en012702.pdf
footprint TSSOP-ST8_N (TSOP, 8-Leads, Body 3x4.4mm, Pitch 0.65mm, IPC Medium Density)
footprint TSSOP-ST8_L (TSOP, 8-Leads, Body 3x4.4mm, Pitch 0.65mm, IPC High Density)
footprint TSSOP-ST8_M (TSOP, 8-Leads, Body 3x4.4mm, Pitch 0.65mm, IPC Low Density)
pins: 1 ~{CS}/SHDN (in), 2 CH0 (in), 3 CH1 (in), 4 VSS (power), 5 DIN (in), 6 DOUT (hiz), 7 CLK (in), 8 VDD/VREF (power)

## MCP3002T-I/SN
designator U?
2.7V Dual Channel 10-Bit A/D Converter with SPI Serial Interface, 8-Pin SOIC 150mil, Industrial Temperature, Tape and Reel; Manufacturer: Microchip; PartNumber: MCP3002T-I/SN; DatasheetVersion: revE, Nov-2011; PackageVersion: revBB, Aug-2009; PackageReference: SOIC-SN8; PackageDescription: 8-Lead Plastic Small Outline (SN) - Narrow, 3.90mm Body [SOIC]; Supplier 1: Digi-Key; Supplier Part Number 1: MCP3002T-I/SN-ND; Supplier 2: Mouser; Supplier Part Number 2: 579-MCP3002T-I/SN; Mounting Technology: Surface Mount; Code_JEDEC: MS-012; Code_IPC: SOIC127P600-8; ComponentLink1Description: Manufacturer URL; ComponentLink1URL: http://www.microchip.com/; ComponentLink2Description: Datasheet; ComponentLink2URL: http://ww1.microchip.com/downloads/en/DeviceDoc/21294E.pdf; ComponentLink3Description: Package Specification; ComponentLink3URL: http://www.microchip.com/stellent/groups/techpub_sg/documents/packagingspec/en012702.pdf
footprint SOIC-SN8_N (SOIC, 8-Leads, Body 4.9x3.8mm, Pitch 1.27mm, IPC Medium Density)
footprint SOIC-SN8_L (SOIC, 8-Leads, Body 4.9x3.8mm, Pitch 1.27mm, IPC High Density)
footprint SOIC-SN8_M (SOIC, 8-Leads, Body 4.9x3.8mm, Pitch 1.27mm, IPC Low Density)
pins: 1 ~{CS}/SHDN (in), 2 CH0 (in), 3 CH1 (in), 4 VSS (power), 5 DIN (in), 6 DOUT (hiz), 7 CLK (in), 8 VDD/VREF (power)

## MCP3002T-I/ST
designator U?
2.7V Dual Channel 10-Bit A/D Converter with SPI Serial Interface, 8-Pin TSSOP, Industrial Temperature, Tape and Reel; Manufacturer: Microchip; PartNumber: MCP3002T-I/ST; DatasheetVersion: revE, Nov-2011; PackageVersion: revBB, Aug-2009; PackageReference: TSSOP-ST8; PackageDescription: 8-Lead Plastic Thin Shrink Small Outline (ST) - 4.4mm Body [TSSOP]; Supplier 1: Digi-Key; Supplier Part Number 1: MCP3002T-I/ST-ND; Supplier 2: Mouser; Supplier Part Number 2: 579-MCP3002T-I/ST; Mounting Technology: Surface Mount; Code_JEDEC: MO-153; ComponentLink1Description: Manufacturer URL; ComponentLink1URL: http://www.microchip.com/; ComponentLink2Description: Datasheet; ComponentLink2URL: http://ww1.microchip.com/downloads/en/DeviceDoc/21294E.pdf; ComponentLink3Description: Package Specification; ComponentLink3URL: http://www.microchip.com/stellent/groups/techpub_sg/documents/packagingspec/en012702.pdf
footprint TSSOP-ST8_N (TSOP, 8-Leads, Body 3x4.4mm, Pitch 0.65mm, IPC Medium Density)
footprint TSSOP-ST8_L (TSOP, 8-Leads, Body 3x4.4mm, Pitch 0.65mm, IPC High Density)
footprint TSSOP-ST8_M (TSOP, 8-Leads, Body 3x4.4mm, Pitch 0.65mm, IPC Low Density)
pins: 1 ~{CS}/SHDN (in), 2 CH0 (in), 3 CH1 (in), 4 VSS (power), 5 DIN (in), 6 DOUT (hiz), 7 CLK (in), 8 VDD/VREF (power)

## MCP3004-I/P
designator U?
2.7V 4-Channel/8-Channel 10-Bit A/D Converters with SPI Serial Interface, 14-Pin PDIP, Industrial Temperature; Manufacturer: Microchip; PartNumber: MCP3004-I/P; DatasheetVersion: revD, Dec-2008; PackageVersion: revBB, Aug-2009; PackageReference: PDIP300-P14; PackageDescription: 14-Lead Plastic Dual In-Line (P) - 300 mil Body [PDIP]; Supplier 1: Digi-Key; Supplier Part Number 1: MCP3004-I/P-ND; Supplier 2: Newark; Supplier Part Number 2: 19C7195; Supplier 3: Mouser; Supplier Part Number 3: 579-MCP3004-I/P; Mounting Technology: Through Hole; ComponentLink1Description: Manufacturer URL; ComponentLink1URL: http://www.microchip.com/; ComponentLink2Description: Datasheet; ComponentLink2URL: http://ww1.microchip.com/downloads/en/DeviceDoc/21295d.pdf; ComponentLink3Description: Package Specification; ComponentLink3URL: http://www.microchip.com/stellent/groups/techpub_sg/documents/packagingspec/en012702.pdf
footprint PDIP300-P14 (DIP, 14-Leads, Row Spacing 7.62mm, Pitch 2.54mm, Body 19.2x6.6mm)
pins: 1 CH0 (in), 2 CH1 (in), 3 CH2 (in), 4 CH3 (in), 5 NC, 6 NC, 7 DGND (power), 8 ~{CS}/SHDN (in), 9 DIN (in), 10 DOUT (hiz), 11 CLK (in), 12 AGND (power), 13 VREF (in), 14 VDD (power)

## MCP3004-I/SL
designator U?
2.7V 4-Channel/8-Channel 10-Bit A/D Converters with SPI Serial Interface, 14-Pin SOIC 150mil, Industrial Temperature; Manufacturer: Microchip; PartNumber: MCP3004-I/SL; DatasheetVersion: revD, Dec-2008; PackageVersion: revBB, Aug-2009; PackageReference: SOIC-SL14; PackageDescription: 14-Lead Plastic Small Outline (SL) - Narrow, 3.90mm Body [SOIC]; Supplier 1: Digi-Key; Supplier Part Number 1: MCP3004-I/SL-ND; Supplier 2: Farnell; Supplier Part Number 2: 1852016; Supplier 3: Newark; Supplier Part Number 3: 19C7196; Supplier 4: Mouser; Supplier Part Number 4: 579-MCP3004-I/SL; Mounting Technology: Surface Mount; Code_JEDEC: MS-012-AB; Code_IPC: SOIC127P600-14; ComponentLink1Description: Manufacturer URL; ComponentLink1URL: http://www.microchip.com/; ComponentLink2Description: Datasheet; ComponentLink2URL: http://ww1.microchip.com/downloads/en/DeviceDoc/21295d.pdf; ComponentLink3Description: Package Specification; ComponentLink3URL: http://www.microchip.com/stellent/groups/techpub_sg/documents/packagingspec/en012702.pdf
footprint SOIC-SL14_N (SOIC, 14-Leads, Body 8.7x3.9mm, Pitch 1.27mm, IPC Medium Density)
footprint SOIC-SL14_L (SOIC, 14-Leads, Body 8.7x3.9mm, Pitch 1.27mm, IPC High Density)
footprint SOIC-SL14_M (SOIC, 14-Leads, Body 8.7x3.9mm, Pitch 1.27mm, IPC Low Density)
pins: 1 CH0 (in), 2 CH1 (in), 3 CH2 (in), 4 CH3 (in), 5 NC, 6 NC, 7 DGND (power), 8 ~{CS}/SHDN (in), 9 DIN (in), 10 DOUT (hiz), 11 CLK (in), 12 AGND (power), 13 VREF (in), 14 VDD (power)

## MCP3004-I/ST
designator U?
2.7V 4-Channel/8-Channel 10-Bit A/D Converters with SPI Serial Interface, 14-Pin TSSOP, Industrial Temperature; Manufacturer: Microchip; PartNumber: MCP3004-I/ST; DatasheetVersion: revD, Dec-2008; PackageVersion: revBB, Aug-2009; PackageReference: TSSOP-ST14; PackageDescription: 14-Lead Plastic Thin Shrink Small Outline (ST) - 4.4mm Body [TSSOP]; Supplier 1: Digi-Key; Supplier Part Number 1: MCP3004-I/ST-ND; Supplier 2: Farnell; Supplier Part Number 2: 1523365; Supplier 3: Newark; Supplier Part Number 3: 74M3032; Supplier 4: Mouser; Supplier Part Number 4: 579-MCP3004-I/ST; Mounting Technology: Surface Mount; ComponentLink1Description: Manufacturer URL; ComponentLink1URL: http://www.microchip.com/; ComponentLink2Description: Datasheet; ComponentLink2URL: http://ww1.microchip.com/downloads/en/DeviceDoc/21295d.pdf; ComponentLink3Description: Package Specification; ComponentLink3URL: http://www.microchip.com/stellent/groups/techpub_sg/documents/packagingspec/en012702.pdf
footprint TSSOP-ST14_N (TSOP, 14-Leads, Body 5x4.4mm, Pitch 0.65mm, IPC Medium Density)
footprint TSSOP-ST14_L (TSOP, 14-Leads, Body 5x4.4mm, Pitch 0.65mm, IPC High Density)
footprint TSSOP-ST14_M (TSOP, 14-Leads, Body 5x4.4mm, Pitch 0.65mm, IPC Low Density)
pins: 1 CH0 (in), 2 CH1 (in), 3 CH2 (in), 4 CH3 (in), 5 NC, 6 NC, 7 DGND (power), 8 ~{CS}/SHDN (in), 9 DIN (in), 10 DOUT (hiz), 11 CLK (in), 12 AGND (power), 13 VREF (in), 14 VDD (power)